# EAGLE library part BNO055-IMU (library NASA Parts Lib)
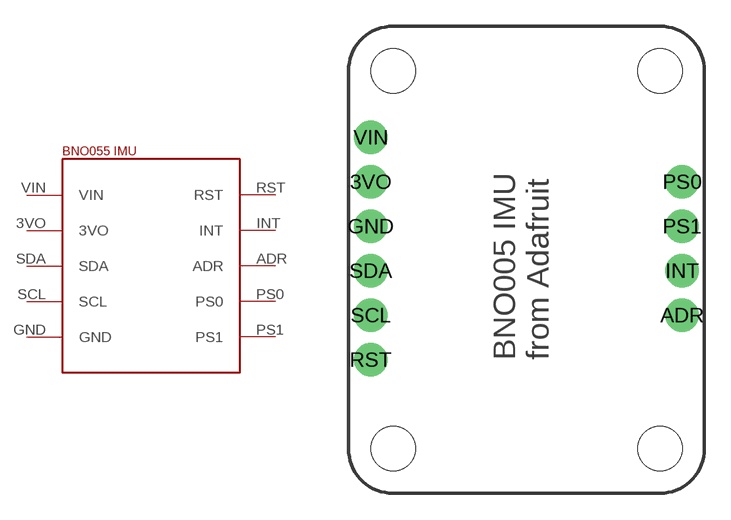
[diagram p2: symbol with the pads of BNO055-BREAKOUT; footprint BNO055-BREAKOUT]

Designator prefix -

## BNO055-IMU  [BNO055-BREAKOUT]
3VO  3VO
ADR  ADR
GND  GND
INT  INT
PS0  PS0
PS1  PS1
RST  RST
SCL  SCL
SDA  SDA
VIN  VIN

## Footprint BNO055-BREAKOUT (pad centres in mm)
drill 1.016 pad 1.905: 3VO 1.27,17.78; ADR 19.05,10.16; GND 1.27,15.24; INT 19.05,12.7; PS0 19.05,17.78; PS1 19.05,15.24; RST 1.27,7.62; SCL 1.27,10.16; SDA 1.27,12.7; VIN 1.27,20.32
hole 2.54 at 2.54,2.54
hole 2.54 at 17.78,2.54
hole 2.54 at 2.54,24.13
hole 2.54 at 17.78,24.13